# Altium integrated library PDQ30-Q24-S12-D.IntLib: 1 symbol
Pins are listed as number, name and electrical type; pins without a type are passive.

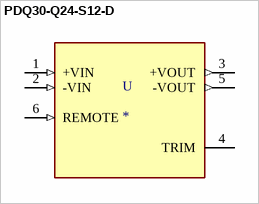
[diagram p0: symbol PDQ30-Q24-S12-D]

## PDQ30-Q24-S12-D
designator U
30 W, 4:1 Input Range, Single/Dual Regulated Output, 1500 Vdc Isolation, Dc-Dc Converter; MF: CUI Inc.; MP: PDQ30-Q24-S12-D; Package: DIP-6; Value: *; SnapEDA_Link: https://www.snapeda.com/parts/PDQ30-Q24-S12-D/CUI/view-part/573769/?ref=snap; Availability: Unavailable; Price: None
footprint CONV_PDQ30-Q24-S12-D
pins: 1 +VIN (in), 2 -VIN (in), 3 +VOUT (out), 4 TRIM, 5 -VOUT (out), 6 REMOTE (in)